# Altium schematic symbol library SMBJ24CA.SchLib: 1 symbol
Pins are listed as number, name and electrical type; pins without a type are passive.

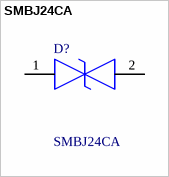
[diagram p0: symbol SMBJ24CA]

## SMBJ24CA
designator D?
Littelfuse SMBJ24CA, Bi-Directional TVS Diode, 600W, 2-Pin DO-214AA; Geometry.Height: 2.44mm; Mouser Part Number: 576-SMBJ24CA; Mouser Price/Stock: https://www.mouser.co.uk/ProductDetail/Littelfuse/SMBJ24CA?qs=JJML70Qc14u3Wc4gmMep1w%3D%3D; Manufacturer_Name: LITTELFUSE; Manufacturer_Part_Number: SMBJ24CA; Datasheet Link: https://m.littelfuse.com/~/media/electronics/datasheets/tvs_diodes/littelfuse_tvs_diode_smbj_datasheet.pdf.pdf
footprint DIOM5436X244N
pins: 1, 2